# Altium footprint library PCB - POTENTIOMETER - BOURNS TRIMPOT 3386P-1.PCBLIB: 1 footprints
Each footprint in its own frame and in the unit in brackets; x right, y up, seen from the top. Pads: shape width x height; smd on the part's side, far side on the other; paste and mask are expansions set on the pad; w line width, h text height; cw(c..) or ccw(c..) is an arc to the next point about the centre after c.
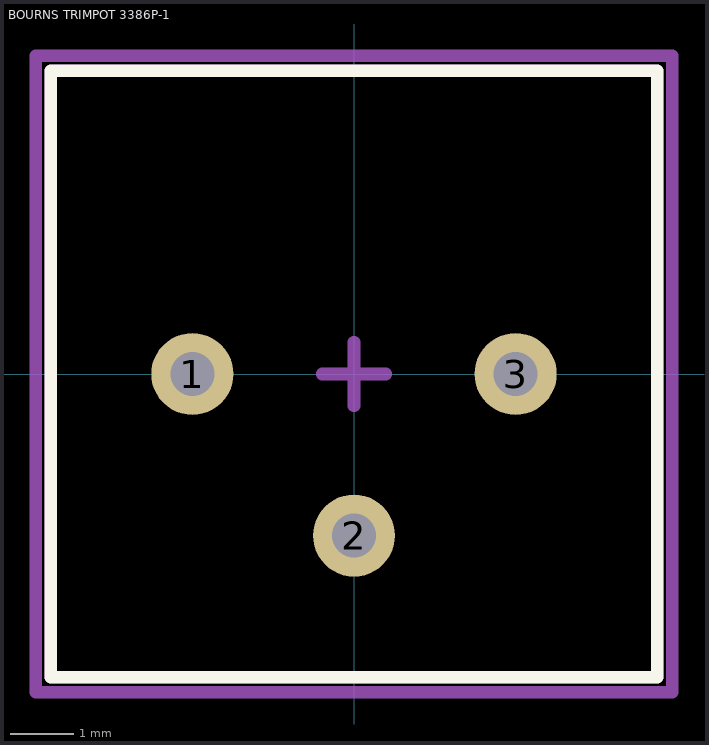
[diagram p0: the footprint, top view; thin cyan lines are the x and y axes]

## BOURNS TRIMPOT 3386P-1 [mm] "3386 - 3/8 ˝ Square Trimpot® Trimming Potentiometer"
height 4.83
pads (3):
  round 1.29 hole 0.69: 1(-2.54,0) 2(0,-2.54) 3(2.54,0)
Top Overlay:
  lines w0.2: -4.765,-4.765 -4.765,4.765 4.765,4.765 4.765,-4.765 -4.765,-4.765
Top Assembly:
  lines w0.2: -0.5,0 0.5,0 ; 0,-0.5 0,0.5 ; -4.765,-4.765 4.765,-4.765 4.765,4.765 -4.765,4.765 -4.765,-4.765
Top Courtyard (Mech15):
  lines w0.2: -5,-5 -5,5 5,5 5,-5 -5,-5
3D body "Bourns 3386P-1.step": height 4.95, standoff -2.94, extent -4.788,-4.788 4.788,4.788